# Altium schematic symbol library R-CRCW12061K50JNEA.Schlib: 1 symbol
Pins are listed as number, name and electrical type; pins without a type are passive.

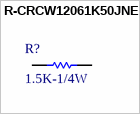
[diagram p0: symbol R-CRCW12061K50JNEA]

## R-CRCW12061K50JNEA
designator R?, comment 1.5K-1/4W
Thick Film Resistors - SMD 1/4watt 1.5Kohms 5%
pins: 1, 2